# EAGLE library part CB_1PH_AUX (library CASARIAE)
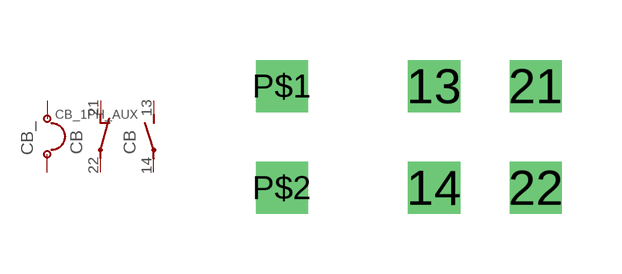
[diagram p6: symbol with the pads of CB_2_AUX; footprint CB_2_AUX]

Designator prefix CB; gates _=BREAKER G$2=O G$3=S

## CB_1PH_AUX  [CB_2_AUX]
13  G$3:S  pas
14  G$3:P  pas
21  G$2:O  pas
22  G$2:P  pas
P$1  _:1  pas
P$2  _:2  pas

## Footprint CB_2_AUX (pad centres in mm)
drill 0.8 square: 13 -7.62,5.08; 14 -7.62,2.54; 21 -5.08,5.08; 22 -5.08,2.54; P$1 -11.43,5.08; P$2 -11.43,2.54